# Altium footprint library T50201500000G.PcbLib: 1 footprints
Each footprint in its own frame and in the unit in brackets; x right, y up, seen from the top. Pads: shape width x height; smd on the part's side, far side on the other; paste and mask are expansions set on the pad; w line width, h text height; cw(c..) or ccw(c..) is an arc to the next point about the centre after c.
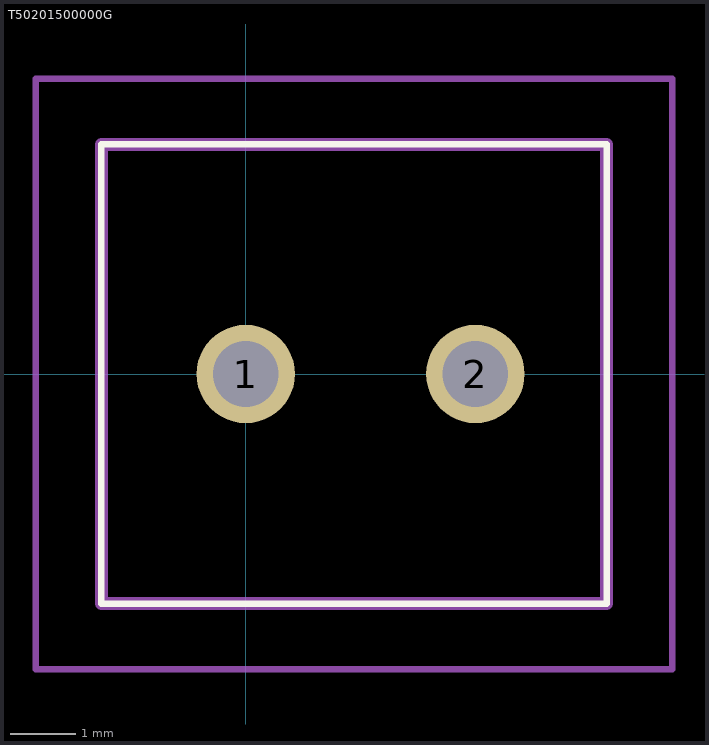
[diagram p0: the footprint, top view; thin cyan lines are the x and y axes]

## T50201500000G [mm]
pads (2):
  round 1.5 hole 1: 1(0,0) 2(3.5,0)
Top Overlay:
  lines w0.1: -2.2,-3.5 5.5,-3.5 5.5,3.5 -2.2,3.5 -2.2,-3.5
Mechanical 15:
  lines w0.2: -2.2,-3.5 5.5,-3.5 5.5,3.5 -2.2,3.5 -2.2,-3.5
Mechanical 20:
  lines w0.1: -3.2,-4.5 6.5,-4.5 6.5,4.5 -3.2,4.5 -3.2,-4.5